# Altium integrated library TI_Logic_Flip-Flop,Latch,Register.IntLib: 2598 symbols (part 78 of 122)
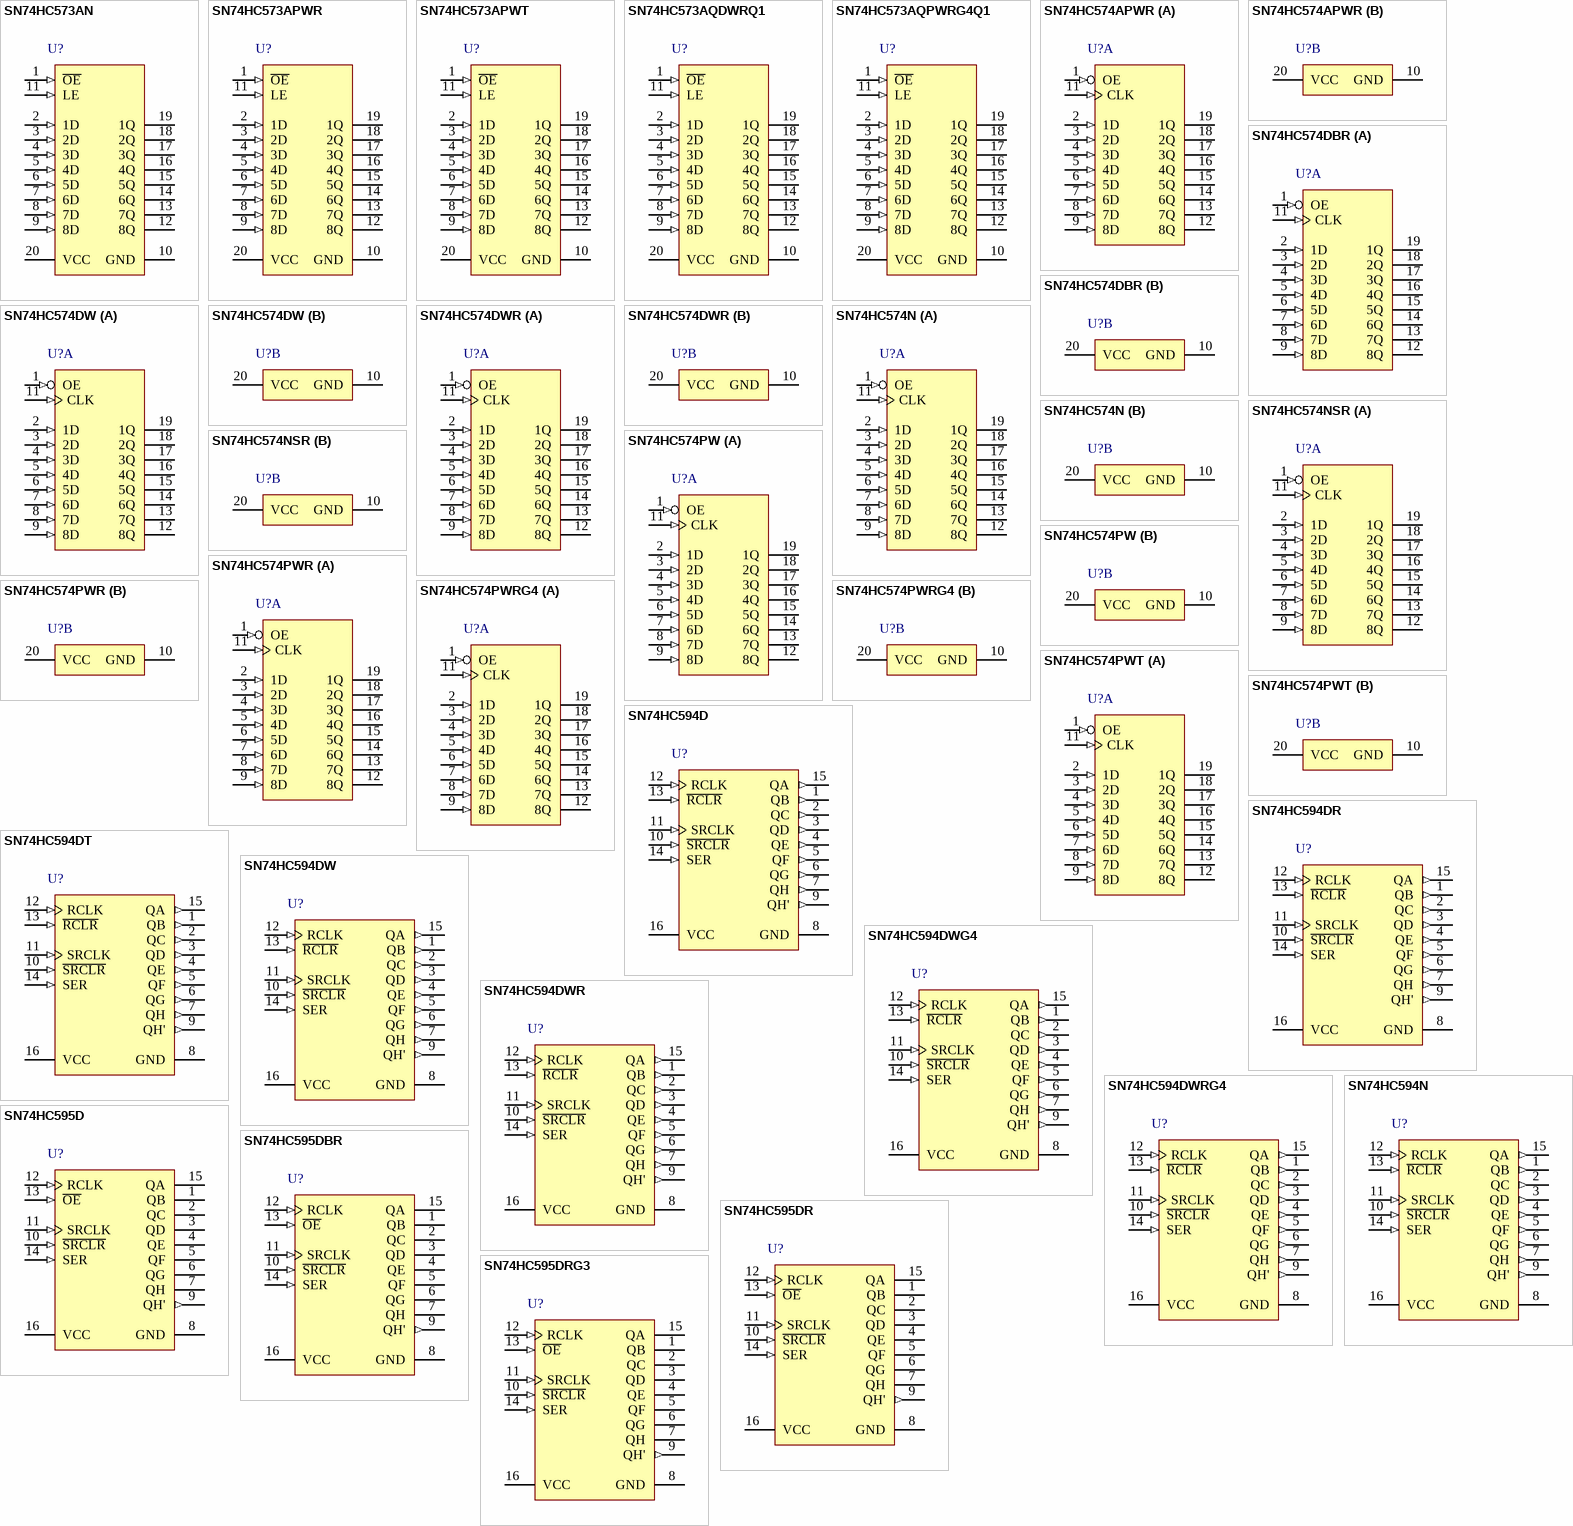
[diagram p216: symbols SN74HC573AN to SN74HC595DRG3]

## SN74HC594D
designator U?
8-Bit Shift Registers With Output Registers, D0016A, TUBE; Generic Part Number: SN74HC594; Manufacturer: Texas Instruments; PartNumber: SN74HC594D; Technology Family: HC; VCC(Min)(V): 2; VCC(Max)(V): 6; F @ Nom Voltage(Max)(Mhz): 28; ICC @ Nom Voltage(Max)(mA): 0.08; tpd @ Nom Voltage(Max)(ns): 31; Output Drive (IOL/IOH)(Max)(mA): 7.8/-7.8; Input Type: CMOS; 3-State Output: No; Rating: Catalog; Bits: 8; DatasheetVersion: SCLS040F; PackageReference: D0016A; Voltage(Nom)(V): 6; Output Type: CMOS; Operating Temperature Range(C): -40 to 85; Code_JEDEC: MS-012 variation AC; ComponentLink1Description: Manufacturer URL; ComponentLink1URL: http://www.ti.com/; ComponentLink2Description: Datasheet; ComponentLink2URL: http://www.ti.com/lit/ds/symlink/sn74hc594.pdf; ComponentLink3Description: Package Specification; ComponentLink3URL: http://www.ti.com/lit/ml/mpds178g/mpds178g.pdf
footprint D0016A_N (SOIC, 16-Leads, Body 10x4mm, Pitch 1.27mm, IPC Medium Density)
footprint D0016A_M (SOIC, 16-Leads, Body 10x4mm, Pitch 1.27mm, IPC Low Density)
footprint D0016A_L (SOIC, 16-Leads, Body 10x4mm, Pitch 1.27mm, IPC High Density)
pins: 1 QB (out) "QB Output", 2 QC (out) "QC Output", 3 QD (out) "QD Output", 4 QE (out) "QE Output", 5 QF (out) "QF Output", 6 QG (out) "QG Output", 7 QH (out) "QH Output", 8 GND (power) "Ground Pin", 9 QH' (out) "QH' Output", 10 ~{SRCLR} (in) "S\R\C\L\R\ Input", 11 SRCLK (in) "SRCLK Input", 12 RCLK (in) "RCLK Input", 13 ~{RCLR} (in) "R\C\L\R\ Input", 14 SER (in) "SER Input", 15 QA (out) "QA Output", 16 VCC (power) "Power pin"

## SN74HC594DR
designator U?
8-Bit Shift Registers With Output Registers, D0016A, LARGE T&R; Generic Part Number: SN74HC594; Manufacturer: Texas Instruments; PartNumber: SN74HC594DR; Technology Family: HC; VCC(Min)(V): 2; VCC(Max)(V): 6; F @ Nom Voltage(Max)(Mhz): 28; ICC @ Nom Voltage(Max)(mA): 0.08; tpd @ Nom Voltage(Max)(ns): 31; Output Drive (IOL/IOH)(Max)(mA): 7.8/-7.8; Input Type: CMOS; 3-State Output: No; Rating: Catalog; Bits: 8; DatasheetVersion: SCLS040F; PackageReference: D0016A; Voltage(Nom)(V): 6; Output Type: CMOS; Operating Temperature Range(C): -40 to 85; Code_JEDEC: MS-012 variation AC; ComponentLink1Description: Manufacturer URL; ComponentLink1URL: http://www.ti.com/; ComponentLink2Description: Datasheet; ComponentLink2URL: http://www.ti.com/lit/ds/symlink/sn74hc594.pdf; ComponentLink3Description: Package Specification; ComponentLink3URL: http://www.ti.com/lit/ml/mpds178g/mpds178g.pdf
footprint D0016A_N (SOIC, 16-Leads, Body 10x4mm, Pitch 1.27mm, IPC Medium Density)
footprint D0016A_M (SOIC, 16-Leads, Body 10x4mm, Pitch 1.27mm, IPC Low Density)
footprint D0016A_L (SOIC, 16-Leads, Body 10x4mm, Pitch 1.27mm, IPC High Density)
pins: 1 QB (out) "QB Output", 2 QC (out) "QC Output", 3 QD (out) "QD Output", 4 QE (out) "QE Output", 5 QF (out) "QF Output", 6 QG (out) "QG Output", 7 QH (out) "QH Output", 8 GND (power) "Ground Pin", 9 QH' (out) "QH' Output", 10 ~{SRCLR} (in) "S\R\C\L\R\ Input", 11 SRCLK (in) "SRCLK Input", 12 RCLK (in) "RCLK Input", 13 ~{RCLR} (in) "R\C\L\R\ Input", 14 SER (in) "SER Input", 15 QA (out) "QA Output", 16 VCC (power) "Power pin"

## SN74HC594DT
designator U?
8-Bit Shift Registers With Output Registers, D0016A, SMALL T&R; Generic Part Number: SN74HC594; Manufacturer: Texas Instruments; PartNumber: SN74HC594DT; Technology Family: HC; VCC(Min)(V): 2; VCC(Max)(V): 6; F @ Nom Voltage(Max)(Mhz): 28; ICC @ Nom Voltage(Max)(mA): 0.08; tpd @ Nom Voltage(Max)(ns): 31; Output Drive (IOL/IOH)(Max)(mA): 7.8/-7.8; Input Type: CMOS; 3-State Output: No; Rating: Catalog; Bits: 8; DatasheetVersion: SCLS040F; PackageReference: D0016A; Voltage(Nom)(V): 6; Output Type: CMOS; Operating Temperature Range(C): -40 to 85; Code_JEDEC: MS-012 variation AC; ComponentLink1Description: Manufacturer URL; ComponentLink1URL: http://www.ti.com/; ComponentLink2Description: Datasheet; ComponentLink2URL: http://www.ti.com/lit/ds/symlink/sn74hc594.pdf; ComponentLink3Description: Package Specification; ComponentLink3URL: http://www.ti.com/lit/ml/mpds178g/mpds178g.pdf
footprint D0016A_N (SOIC, 16-Leads, Body 10x4mm, Pitch 1.27mm, IPC Medium Density)
footprint D0016A_M (SOIC, 16-Leads, Body 10x4mm, Pitch 1.27mm, IPC Low Density)
footprint D0016A_L (SOIC, 16-Leads, Body 10x4mm, Pitch 1.27mm, IPC High Density)
pins: 1 QB (out) "QB Output", 2 QC (out) "QC Output", 3 QD (out) "QD Output", 4 QE (out) "QE Output", 5 QF (out) "QF Output", 6 QG (out) "QG Output", 7 QH (out) "QH Output", 8 GND (power) "Ground Pin", 9 QH' (out) "QH' Output", 10 ~{SRCLR} (in) "S\R\C\L\R\ Input", 11 SRCLK (in) "SRCLK Input", 12 RCLK (in) "RCLK Input", 13 ~{RCLR} (in) "R\C\L\R\ Input", 14 SER (in) "SER Input", 15 QA (out) "QA Output", 16 VCC (power) "Power pin"

## SN74HC594DW
designator U?
8-Bit Shift Registers With Output Registers, DW0016A, TUBE; Generic Part Number: SN74HC594; Manufacturer: Texas Instruments; PartNumber: SN74HC594DW; Technology Family: HC; VCC(Min)(V): 2; VCC(Max)(V): 6; F @ Nom Voltage(Max)(Mhz): 28; ICC @ Nom Voltage(Max)(mA): 0.08; tpd @ Nom Voltage(Max)(ns): 31; Output Drive (IOL/IOH)(Max)(mA): 7.8/-7.8; Input Type: CMOS; 3-State Output: No; Rating: Catalog; Bits: 8; DatasheetVersion: SCLS040F; PackageReference: DW0016A; Voltage(Nom)(V): 6; Output Type: CMOS; Operating Temperature Range(C): -40 to 85; Code_JEDEC: MS-013 variation AA; ComponentLink1Description: Manufacturer URL; ComponentLink1URL: http://www.ti.com/; ComponentLink2Description: Datasheet; ComponentLink2URL: http://www.ti.com/lit/ds/symlink/sn74hc594.pdf; ComponentLink3Description: Package Specification; ComponentLink3URL: http://www.ti.com/lit/ml/msoi003g/msoi003g.pdf
footprint DW0016A_N (SOIC, 16-Leads, Body 10.5x7.6mm, Pitch 1.27mm, IPC Medium Density)
footprint DW0016A_M (SOIC, 16-Leads, Body 10.5x7.6mm, Pitch 1.27mm, IPC Low Density)
footprint DW0016A_L (SOIC, 16-Leads, Body 10.5x7.6mm, Pitch 1.27mm, IPC High Density)
pins: 1 QB (out) "QB Output", 2 QC (out) "QC Output", 3 QD (out) "QD Output", 4 QE (out) "QE Output", 5 QF (out) "QF Output", 6 QG (out) "QG Output", 7 QH (out) "QH Output", 8 GND (power) "Ground Pin", 9 QH' (out) "QH' Output", 10 ~{SRCLR} (in) "S\R\C\L\R\ Input", 11 SRCLK (in) "SRCLK Input", 12 RCLK (in) "RCLK Input", 13 ~{RCLR} (in) "R\C\L\R\ Input", 14 SER (in) "SER Input", 15 QA (out) "QA Output", 16 VCC (power) "Power pin"

## SN74HC594DWG4
designator U?
8-Bit Shift Registers With Output Registers, DW0016A, TUBE; Generic Part Number: SN74HC594; Manufacturer: Texas Instruments; PartNumber: SN74HC594DWG4; Technology Family: HC; VCC(Min)(V): 2; VCC(Max)(V): 6; F @ Nom Voltage(Max)(Mhz): 28; ICC @ Nom Voltage(Max)(mA): 0.08; tpd @ Nom Voltage(Max)(ns): 31; Output Drive (IOL/IOH)(Max)(mA): 7.8/-7.8; Input Type: CMOS; 3-State Output: No; Rating: Catalog; Bits: 8; DatasheetVersion: SCLS040F; PackageReference: DW0016A; Voltage(Nom)(V): 6; Output Type: CMOS; Operating Temperature Range(C): -40 to 85; Code_JEDEC: MS-013 variation AA; ComponentLink1Description: Manufacturer URL; ComponentLink1URL: http://www.ti.com/; ComponentLink2Description: Datasheet; ComponentLink2URL: http://www.ti.com/lit/ds/symlink/sn74hc594.pdf; ComponentLink3Description: Package Specification; ComponentLink3URL: http://www.ti.com/lit/ml/msoi003g/msoi003g.pdf
footprint DW0016A_N (SOIC, 16-Leads, Body 10.5x7.6mm, Pitch 1.27mm, IPC Medium Density)
footprint DW0016A_M (SOIC, 16-Leads, Body 10.5x7.6mm, Pitch 1.27mm, IPC Low Density)
footprint DW0016A_L (SOIC, 16-Leads, Body 10.5x7.6mm, Pitch 1.27mm, IPC High Density)
pins: 1 QB (out) "QB Output", 2 QC (out) "QC Output", 3 QD (out) "QD Output", 4 QE (out) "QE Output", 5 QF (out) "QF Output", 6 QG (out) "QG Output", 7 QH (out) "QH Output", 8 GND (power) "Ground Pin", 9 QH' (out) "QH' Output", 10 ~{SRCLR} (in) "S\R\C\L\R\ Input", 11 SRCLK (in) "SRCLK Input", 12 RCLK (in) "RCLK Input", 13 ~{RCLR} (in) "R\C\L\R\ Input", 14 SER (in) "SER Input", 15 QA (out) "QA Output", 16 VCC (power) "Power pin"

## SN74HC594DWR
designator U?
8-Bit Shift Registers With Output Registers, DW0016A, LARGE T&R; Generic Part Number: SN74HC594; Manufacturer: Texas Instruments; PartNumber: SN74HC594DWR; Technology Family: HC; VCC(Min)(V): 2; VCC(Max)(V): 6; F @ Nom Voltage(Max)(Mhz): 28; ICC @ Nom Voltage(Max)(mA): 0.08; tpd @ Nom Voltage(Max)(ns): 31; Output Drive (IOL/IOH)(Max)(mA): 7.8/-7.8; Input Type: CMOS; 3-State Output: No; Rating: Catalog; Bits: 8; DatasheetVersion: SCLS040F; PackageReference: DW0016A; Voltage(Nom)(V): 6; Output Type: CMOS; Operating Temperature Range(C): -40 to 85; Code_JEDEC: MS-013 variation AA; ComponentLink1Description: Manufacturer URL; ComponentLink1URL: http://www.ti.com/; ComponentLink2Description: Datasheet; ComponentLink2URL: http://www.ti.com/lit/ds/symlink/sn74hc594.pdf; ComponentLink3Description: Package Specification; ComponentLink3URL: http://www.ti.com/lit/ml/msoi003g/msoi003g.pdf
footprint DW0016A_N (SOIC, 16-Leads, Body 10.5x7.6mm, Pitch 1.27mm, IPC Medium Density)
footprint DW0016A_M (SOIC, 16-Leads, Body 10.5x7.6mm, Pitch 1.27mm, IPC Low Density)
footprint DW0016A_L (SOIC, 16-Leads, Body 10.5x7.6mm, Pitch 1.27mm, IPC High Density)
pins: 1 QB (out) "QB Output", 2 QC (out) "QC Output", 3 QD (out) "QD Output", 4 QE (out) "QE Output", 5 QF (out) "QF Output", 6 QG (out) "QG Output", 7 QH (out) "QH Output", 8 GND (power) "Ground Pin", 9 QH' (out) "QH' Output", 10 ~{SRCLR} (in) "S\R\C\L\R\ Input", 11 SRCLK (in) "SRCLK Input", 12 RCLK (in) "RCLK Input", 13 ~{RCLR} (in) "R\C\L\R\ Input", 14 SER (in) "SER Input", 15 QA (out) "QA Output", 16 VCC (power) "Power pin"

## SN74HC594DWRG4
designator U?
8-Bit Shift Registers With Output Registers, DW0016A, LARGE T&R; Generic Part Number: SN74HC594; Manufacturer: Texas Instruments; PartNumber: SN74HC594DWRG4; Technology Family: HC; VCC(Min)(V): 2; VCC(Max)(V): 6; F @ Nom Voltage(Max)(Mhz): 28; ICC @ Nom Voltage(Max)(mA): 0.08; tpd @ Nom Voltage(Max)(ns): 31; Output Drive (IOL/IOH)(Max)(mA): 7.8/-7.8; Input Type: CMOS; 3-State Output: No; Rating: Catalog; DatasheetVersion: SCLS040F; PackageReference: DW0016A; Voltage(Nom)(V): 6; Output Type: CMOS; Operating Temperature Range(C): -40 to 85; Code_JEDEC: MS-013 variation AA; ComponentLink1Description: Manufacturer URL; ComponentLink1URL: http://www.ti.com/; ComponentLink2Description: Datasheet; ComponentLink2URL: http://www.ti.com/lit/ds/symlink/sn74hc594.pdf; ComponentLink3Description: Package Specification; ComponentLink3URL: http://www.ti.com/lit/ml/msoi003g/msoi003g.pdf
footprint DW0016A_N (SOIC, 16-Leads, Body 10.5x7.6mm, Pitch 1.27mm, IPC Medium Density)
footprint DW0016A_M (SOIC, 16-Leads, Body 10.5x7.6mm, Pitch 1.27mm, IPC Low Density)
footprint DW0016A_L (SOIC, 16-Leads, Body 10.5x7.6mm, Pitch 1.27mm, IPC High Density)
pins: 1 QB (out) "QB Output", 2 QC (out) "QC Output", 3 QD (out) "QD Output", 4 QE (out) "QE Output", 5 QF (out) "QF Output", 6 QG (out) "QG Output", 7 QH (out) "QH Output", 8 GND (power) "Ground Pin", 9 QH' (out) "QH' Output", 10 ~{SRCLR} (in) "S\R\C\L\R\ Input", 11 SRCLK (in) "SRCLK Input", 12 RCLK (in) "RCLK Input", 13 ~{RCLR} (in) "R\C\L\R\ Input", 14 SER (in) "SER Input", 15 QA (out) "QA Output", 16 VCC (power) "Power pin"

## SN74HC594N
designator U?
8-Bit Shift Registers With Output Registers, N0016A, TUBE; Generic Part Number: SN74HC594; Manufacturer: Texas Instruments; PartNumber: SN74HC594N; Technology Family: HC; VCC(Min)(V): 2; VCC(Max)(V): 6; F @ Nom Voltage(Max)(Mhz): 28; ICC @ Nom Voltage(Max)(mA): 0.08; tpd @ Nom Voltage(Max)(ns): 31; Output Drive (IOL/IOH)(Max)(mA): 7.8/-7.8; Input Type: CMOS; 3-State Output: No; Rating: Catalog; Bits: 8; DatasheetVersion: SCLS040F; PackageReference: N0016A; Voltage(Nom)(V): 6; Output Type: CMOS; Operating Temperature Range(C): -40 to 85; Code_JEDEC: MS-001; ComponentLink1Description: Manufacturer URL; ComponentLink1URL: http://www.ti.com/; ComponentLink2Description: Datasheet; ComponentLink2URL: http://www.ti.com/lit/ds/symlink/sn74hc594.pdf; ComponentLink3Description: Package Specification; ComponentLink3URL: http://www.ti.com/lit/ml/mpdi002c/mpdi002c.pdf
footprint N0016A (DIP, 16-Leads, Body 19.7x6.6mm, Pitch 2.54mm)
pins: 1 QB (out) "QB Output", 2 QC (out) "QC Output", 3 QD (out) "QD Output", 4 QE (out) "QE Output", 5 QF (out) "QF Output", 6 QG (out) "QG Output", 7 QH (out) "QH Output", 8 GND (power) "Ground Pin", 9 QH' (out) "QH' Output", 10 ~{SRCLR} (in) "S\R\C\L\R\ Input", 11 SRCLK (in) "SRCLK Input", 12 RCLK (in) "RCLK Input", 13 ~{RCLR} (in) "R\C\L\R\ Input", 14 SER (in) "SER Input", 15 QA (out) "QA Output", 16 VCC (power) "Power pin"

## SN74HC595D
designator U?
8-Bit Shift Registers With 3-State Output Registers, D0016A, TUBE; Generic Part Number: SN74HC595; Manufacturer: Texas Instruments; PartNumber: SN74HC595D; Technology Family: HC; VCC(Min)(V): 2; VCC(Max)(V): 6; F @ Nom Voltage(Max)(Mhz): 28; ICC @ Nom Voltage(Max)(mA): 0.08; tpd @ Nom Voltage(Max)(ns): 34; Output Drive (IOL/IOH)(Max)(mA): 7.8/-7.8; Input Type: CMOS; 3-State Output: Yes; Rating: Military; Bits: 8; DatasheetVersion: SCLS041H; PackageReference: D0016A; Voltage(Nom)(V): 6; Output Type: CMOS; Operating Temperature Range(C): -40 to 85; Code_JEDEC: MS-012 variation AC; ComponentLink1Description: Manufacturer URL; ComponentLink1URL: http://www.ti.com/; ComponentLink2Description: Datasheet; ComponentLink2URL: http://www.ti.com/lit/ds/symlink/sn74hc595.pdf; ComponentLink3Description: Package Specification; ComponentLink3URL: http://www.ti.com/lit/ml/mpds178g/mpds178g.pdf
footprint D0016A_N (SOIC, 16-Leads, Body 10x4mm, Pitch 1.27mm, IPC Medium Density)
footprint D0016A_M (SOIC, 16-Leads, Body 10x4mm, Pitch 1.27mm, IPC Low Density)
footprint D0016A_L (SOIC, 16-Leads, Body 10x4mm, Pitch 1.27mm, IPC High Density)
pins: 1 QB (hiz) "QB Output", 2 QC (hiz) "QC Output", 3 QD (hiz) "QD Output", 4 QE (hiz) "QE Output", 5 QF (hiz) "QF Output", 6 QG (hiz) "QG Output", 7 QH (hiz) "QH Output", 8 GND (power) "Ground Pin", 9 QH' (out) "QH' Output", 10 ~{SRCLR} (in) "S\R\C\L\R\ Input", 11 SRCLK (in) "SRCLK Input", 12 RCLK (in) "RCLK Input", 13 ~{OE} (in) "Output Enable Pin", 14 SER (in) "SER Input", 15 QA (hiz) "QA Output", 16 VCC (power) "Power Pin"

## SN74HC595DBR
designator U?
8-Bit Shift Registers With 3-State Output Registers, DB0016A, LARGE T&R; Generic Part Number: SN74HC595; Manufacturer: Texas Instruments; PartNumber: SN74HC595DBR; Technology Family: HC; VCC(Min)(V): 2; VCC(Max)(V): 6; F @ Nom Voltage(Max)(Mhz): 28; ICC @ Nom Voltage(Max)(mA): 0.08; tpd @ Nom Voltage(Max)(ns): 34; Output Drive (IOL/IOH)(Max)(mA): 7.8/-7.8; Input Type: CMOS; 3-State Output: Yes; Rating: Military; DatasheetVersion: SCLS041H; PackageReference: DB0016A; Voltage(Nom)(V): 6; Output Type: CMOS; Operating Temperature Range(C): -40 to 85; Code_JEDEC: MO-150; ComponentLink1Description: Manufacturer URL; ComponentLink1URL: http://www.ti.com/; ComponentLink2Description: Datasheet; ComponentLink2URL: http://www.ti.com/lit/ds/symlink/sn74hc595.pdf; ComponentLink3Description: Package Specification; ComponentLink3URL: http://www.ti.com/lit/ml/mpds507/mpds507.pdf
footprint DB0016A_N (SOP, 16-Leads, Body 5.6x6.5mm, Pitch 0.65mm, IPC Medium Density)
footprint DB0016A_M (SOP, 16-Leads, Body 5.6x6.5mm, Pitch 0.65mm, IPC Low Density)
footprint DB0016A_L (SOP, 16-Leads, Body 5.6x6.5mm, Pitch 0.65mm, IPC High Density)
pins: 1 QB (hiz) "QB Output", 2 QC (hiz) "QC Output", 3 QD (hiz) "QD Output", 4 QE (hiz) "QE Output", 5 QF (hiz) "QF Output", 6 QG (hiz) "QG Output", 7 QH (hiz) "QH Output", 8 GND (power) "Ground Pin", 9 QH' (out) "QH' Output", 10 ~{SRCLR} (in) "S\R\C\L\R\ Input", 11 SRCLK (in) "SRCLK Input", 12 RCLK (in) "RCLK Input", 13 ~{OE} (in) "Output Enable Pin", 14 SER (in) "SER Input", 15 QA (hiz) "QA Output", 16 VCC (power) "Power Pin"

## SN74HC595DR
designator U?
8-Bit Shift Registers With 3-State Output Registers, D0016A, LARGE T&R; Generic Part Number: SN74HC595; Manufacturer: Texas Instruments; PartNumber: SN74HC595DR; Technology Family: HC; VCC(Min)(V): 2; VCC(Max)(V): 6; F @ Nom Voltage(Max)(Mhz): 28; ICC @ Nom Voltage(Max)(mA): 0.08; tpd @ Nom Voltage(Max)(ns): 34; Output Drive (IOL/IOH)(Max)(mA): 7.8/-7.8; Input Type: CMOS; 3-State Output: Yes; Rating: Military; Bits: 4; DatasheetVersion: SCLS041H; PackageReference: D0016A; Voltage(Nom)(V): 6; Output Type: CMOS; Operating Temperature Range(C): -40 to 85; Code_JEDEC: MS-012 variation AC; ComponentLink1Description: Manufacturer URL; ComponentLink1URL: http://www.ti.com/; ComponentLink2Description: Datasheet; ComponentLink2URL: http://www.ti.com/lit/ds/symlink/sn74hc595.pdf; ComponentLink3Description: Package Specification; ComponentLink3URL: http://www.ti.com/lit/ml/mpds178g/mpds178g.pdf
footprint D0016A_N (SOIC, 16-Leads, Body 10x4mm, Pitch 1.27mm, IPC Medium Density)
footprint D0016A_M (SOIC, 16-Leads, Body 10x4mm, Pitch 1.27mm, IPC Low Density)
footprint D0016A_L (SOIC, 16-Leads, Body 10x4mm, Pitch 1.27mm, IPC High Density)
pins: 1 QB (hiz) "QB Output", 2 QC (hiz) "QC Output", 3 QD (hiz) "QD Output", 4 QE (hiz) "QE Output", 5 QF (hiz) "QF Output", 6 QG (hiz) "QG Output", 7 QH (hiz) "QH Output", 8 GND (power) "Ground Pin", 9 QH' (out) "QH' Output", 10 ~{SRCLR} (in) "S\R\C\L\R\ Input", 11 SRCLK (in) "SRCLK Input", 12 RCLK (in) "RCLK Input", 13 ~{OE} (in) "Output Enable Pin", 14 SER (in) "SER Input", 15 QA (hiz) "QA Output", 16 VCC (power) "Power Pin"

## SN74HC595DRG3
designator U?
8-Bit Shift Registers With 3-State Output Registers, D0016A, LARGE T&R; Generic Part Number: SN74HC595; Manufacturer: Texas Instruments; PartNumber: SN74HC595DRG3; Technology Family: HC; VCC(Min)(V): 2; VCC(Max)(V): 6; F @ Nom Voltage(Max)(Mhz): 28; ICC @ Nom Voltage(Max)(mA): 0.08; tpd @ Nom Voltage(Max)(ns): 34; Output Drive (IOL/IOH)(Max)(mA): 7.8/-7.8; Input Type: CMOS; 3-State Output: Yes; Rating: Military; Bits: 8; DatasheetVersion: SCLS041H; PackageReference: D0016A; Voltage(Nom)(V): 6; Output Type: CMOS; Operating Temperature Range(C): -40 to 85; Code_JEDEC: MS-012 variation AC; ComponentLink1Description: Manufacturer URL; ComponentLink1URL: http://www.ti.com/; ComponentLink2Description: Datasheet; ComponentLink2URL: http://www.ti.com/lit/ds/symlink/sn74hc595.pdf; ComponentLink3Description: Package Specification; ComponentLink3URL: http://www.ti.com/lit/ml/mpds178g/mpds178g.pdf
footprint D0016A_N (SOIC, 16-Leads, Body 10x4mm, Pitch 1.27mm, IPC Medium Density)
footprint D0016A_M (SOIC, 16-Leads, Body 10x4mm, Pitch 1.27mm, IPC Low Density)
footprint D0016A_L (SOIC, 16-Leads, Body 10x4mm, Pitch 1.27mm, IPC High Density)
pins: 1 QB (hiz) "QB Output", 2 QC (hiz) "QC Output", 3 QD (hiz) "QD Output", 4 QE (hiz) "QE Output", 5 QF (hiz) "QF Output", 6 QG (hiz) "QG Output", 7 QH (hiz) "QH Output", 8 GND (power) "Ground Pin", 9 QH' (out) "QH' Output", 10 ~{SRCLR} (in) "S\R\C\L\R\ Input", 11 SRCLK (in) "SRCLK Input", 12 RCLK (in) "RCLK Input", 13 ~{OE} (in) "Output Enable Pin", 14 SER (in) "SER Input", 15 QA (hiz) "QA Output", 16 VCC (power) "Power Pin"

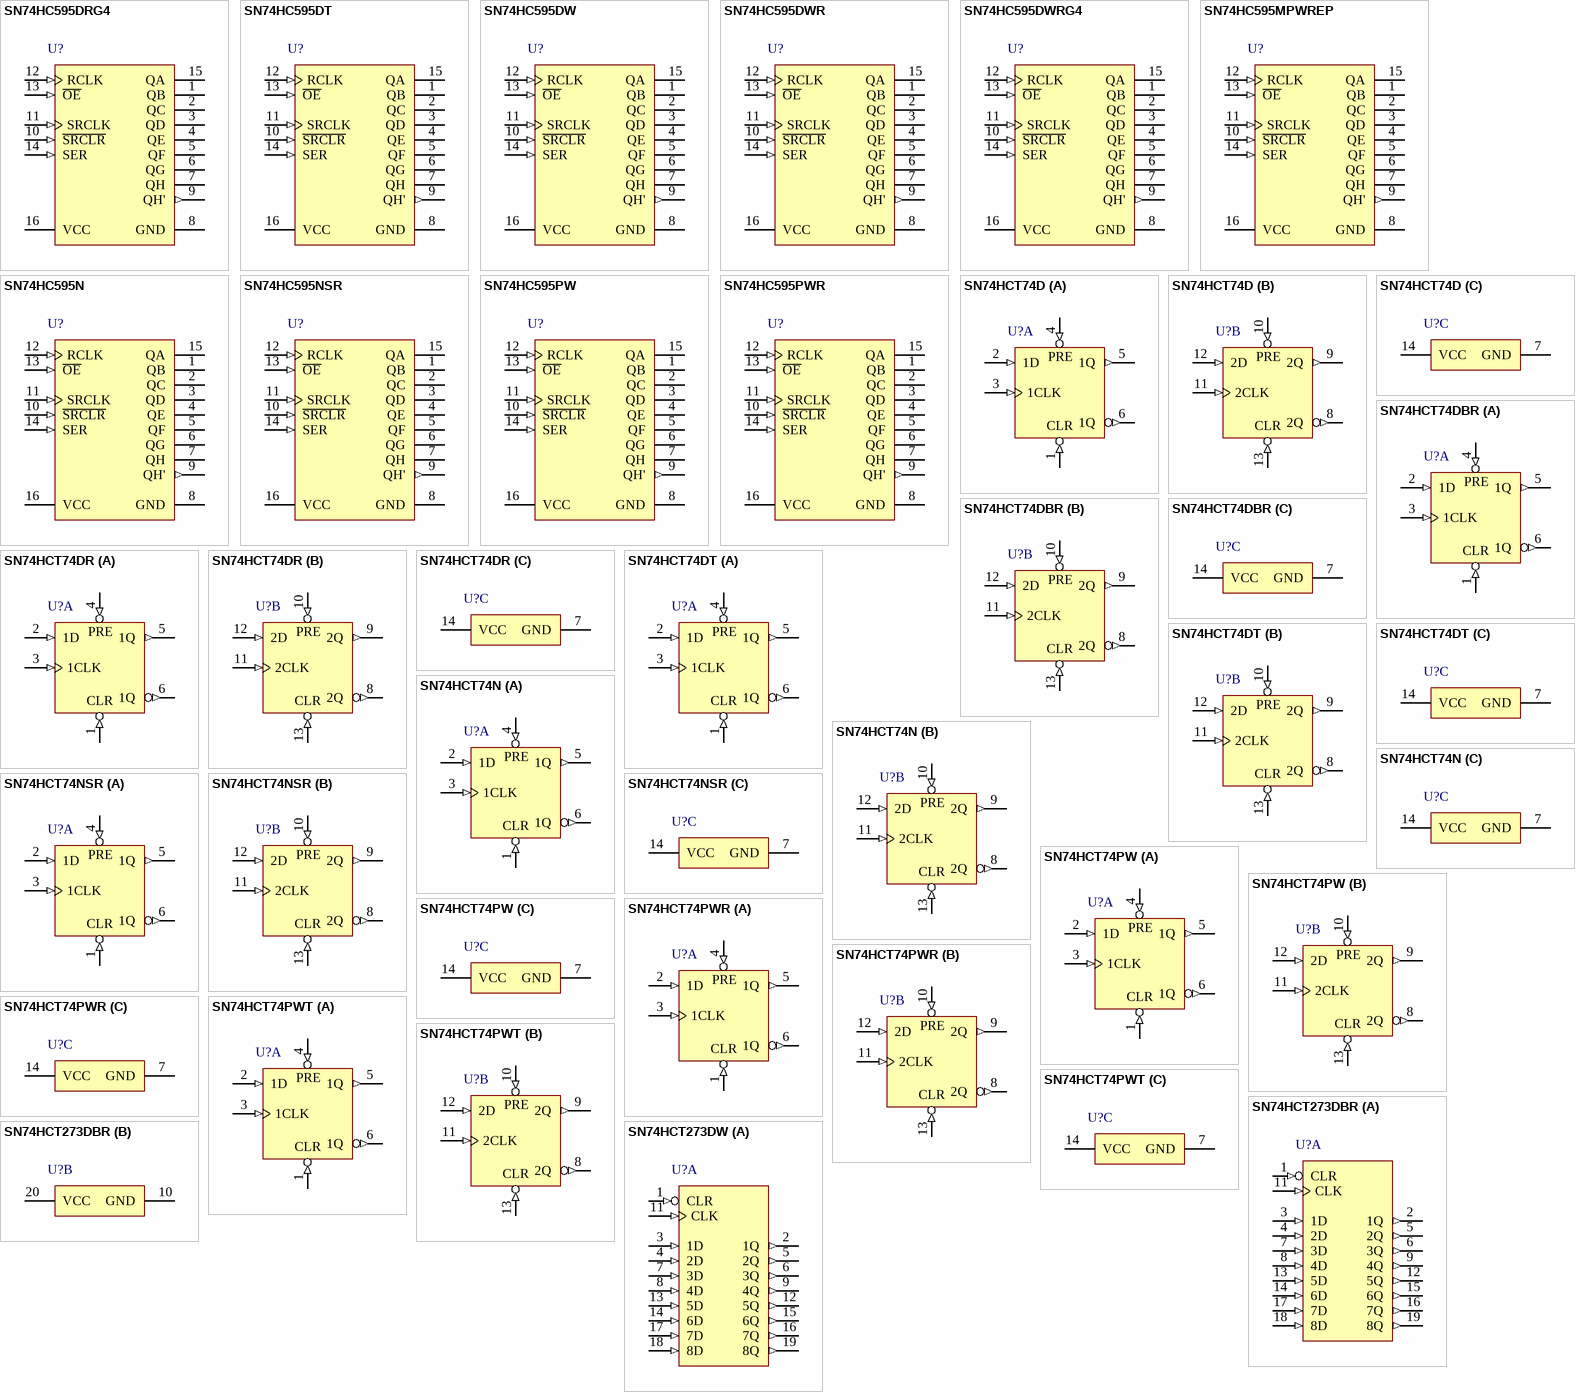
[diagram p92: symbols SN74HC595DRG4 to SN74HCT273DW]

## SN74HC595DRG4
designator U?
8-Bit Shift Registers With 3-State Output Registers, D0016A, LARGE T&R; Generic Part Number: SN74HC595; Manufacturer: Texas Instruments; PartNumber: SN74HC595DRG4; Technology Family: HC; VCC(Min)(V): 2; VCC(Max)(V): 6; F @ Nom Voltage(Max)(Mhz): 28; ICC @ Nom Voltage(Max)(mA): 0.08; tpd @ Nom Voltage(Max)(ns): 34; Output Drive (IOL/IOH)(Max)(mA): 7.8/-7.8; Input Type: CMOS; 3-State Output: Yes; Rating: Military; Bits: 8; DatasheetVersion: SCLS041H; PackageReference: D0016A; Voltage(Nom)(V): 6; Output Type: CMOS; Operating Temperature Range(C): -40 to 85; Code_JEDEC: MS-012 variation AC; ComponentLink1Description: Manufacturer URL; ComponentLink1URL: http://www.ti.com/; ComponentLink2Description: Datasheet; ComponentLink2URL: http://www.ti.com/lit/ds/symlink/sn74hc595.pdf; ComponentLink3Description: Package Specification; ComponentLink3URL: http://www.ti.com/lit/ml/mpds178g/mpds178g.pdf
footprint D0016A_N (SOIC, 16-Leads, Body 10x4mm, Pitch 1.27mm, IPC Medium Density)
footprint D0016A_M (SOIC, 16-Leads, Body 10x4mm, Pitch 1.27mm, IPC Low Density)
footprint D0016A_L (SOIC, 16-Leads, Body 10x4mm, Pitch 1.27mm, IPC High Density)
pins: 1 QB (hiz) "QB Output", 2 QC (hiz) "QC Output", 3 QD (hiz) "QD Output", 4 QE (hiz) "QE Output", 5 QF (hiz) "QF Output", 6 QG (hiz) "QG Output", 7 QH (hiz) "QH Output", 8 GND (power) "Ground Pin", 9 QH' (out) "QH' Output", 10 ~{SRCLR} (in) "S\R\C\L\R\ Input", 11 SRCLK (in) "SRCLK Input", 12 RCLK (in) "RCLK Input", 13 ~{OE} (in) "Output Enable Pin", 14 SER (in) "SER Input", 15 QA (hiz) "QA Output", 16 VCC (power) "Power Pin"

## SN74HC595DT
designator U?
8-Bit Shift Registers With 3-State Output Registers, D0016A, SMALL T&R; Generic Part Number: SN74HC595; Manufacturer: Texas Instruments; PartNumber: SN74HC595DT; Technology Family: HC; VCC(Min)(V): 2; VCC(Max)(V): 6; F @ Nom Voltage(Max)(Mhz): 28; ICC @ Nom Voltage(Max)(mA): 0.08; tpd @ Nom Voltage(Max)(ns): 34; Output Drive (IOL/IOH)(Max)(mA): 7.8/-7.8; Input Type: CMOS; 3-State Output: Yes; Rating: Military; Bits: 8; DatasheetVersion: SCLS041H; PackageReference: D0016A; Voltage(Nom)(V): 6; Output Type: CMOS; Operating Temperature Range(C): -40 to 85; Code_JEDEC: MS-012 variation AC; ComponentLink1Description: Manufacturer URL; ComponentLink1URL: http://www.ti.com/; ComponentLink2Description: Datasheet; ComponentLink2URL: http://www.ti.com/lit/ds/symlink/sn74hc595.pdf; ComponentLink3Description: Package Specification; ComponentLink3URL: http://www.ti.com/lit/ml/mpds178g/mpds178g.pdf
footprint D0016A_N (SOIC, 16-Leads, Body 10x4mm, Pitch 1.27mm, IPC Medium Density)
footprint D0016A_M (SOIC, 16-Leads, Body 10x4mm, Pitch 1.27mm, IPC Low Density)
footprint D0016A_L (SOIC, 16-Leads, Body 10x4mm, Pitch 1.27mm, IPC High Density)
pins: 1 QB (hiz) "QB Output", 2 QC (hiz) "QC Output", 3 QD (hiz) "QD Output", 4 QE (hiz) "QE Output", 5 QF (hiz) "QF Output", 6 QG (hiz) "QG Output", 7 QH (hiz) "QH Output", 8 GND (power) "Ground Pin", 9 QH' (out) "QH' Output", 10 ~{SRCLR} (in) "S\R\C\L\R\ Input", 11 SRCLK (in) "SRCLK Input", 12 RCLK (in) "RCLK Input", 13 ~{OE} (in) "Output Enable Pin", 14 SER (in) "SER Input", 15 QA (hiz) "QA Output", 16 VCC (power) "Power Pin"

## SN74HC595DW
designator U?
8-Bit Shift Registers With 3-State Output Registers, DW0016A, TUBE; Generic Part Number: SN74HC595; Manufacturer: Texas Instruments; PartNumber: SN74HC595DW; Technology Family: HC; VCC(Min)(V): 2; VCC(Max)(V): 6; F @ Nom Voltage(Max)(Mhz): 28; ICC @ Nom Voltage(Max)(mA): 0.08; tpd @ Nom Voltage(Max)(ns): 34; Output Drive (IOL/IOH)(Max)(mA): 7.8/-7.8; Input Type: CMOS; 3-State Output: Yes; Rating: Military; DatasheetVersion: SCLS041H; PackageReference: DW0016A; Voltage(Nom)(V): 6; Output Type: CMOS; Operating Temperature Range(C): -40 to 85; Code_JEDEC: MS-013 variation AA; ComponentLink1Description: Manufacturer URL; ComponentLink1URL: http://www.ti.com/; ComponentLink2Description: Datasheet; ComponentLink2URL: http://www.ti.com/lit/ds/symlink/sn74hc595.pdf; ComponentLink3Description: Package Specification; ComponentLink3URL: http://www.ti.com/lit/ml/msoi003g/msoi003g.pdf
footprint DW0016A_N (SOIC, 16-Leads, Body 10.5x7.6mm, Pitch 1.27mm, IPC Medium Density)
footprint DW0016A_M (SOIC, 16-Leads, Body 10.5x7.6mm, Pitch 1.27mm, IPC Low Density)
footprint DW0016A_L (SOIC, 16-Leads, Body 10.5x7.6mm, Pitch 1.27mm, IPC High Density)
pins: 1 QB (hiz) "QB Output", 2 QC (hiz) "QC Output", 3 QD (hiz) "QD Output", 4 QE (hiz) "QE Output", 5 QF (hiz) "QF Output", 6 QG (hiz) "QG Output", 7 QH (hiz) "QH Output", 8 GND (power) "Ground Pin", 9 QH' (out) "QH' Output", 10 ~{SRCLR} (in) "S\R\C\L\R\ Input", 11 SRCLK (in) "SRCLK Input", 12 RCLK (in) "RCLK Input", 13 ~{OE} (in) "Output Enable Pin", 14 SER (in) "SER Input", 15 QA (hiz) "QA Output", 16 VCC (power) "Power Pin"

## SN74HC595DWR
designator U?
8-Bit Shift Registers With 3-State Output Registers, DW0016A, LARGE T&R; Generic Part Number: SN74HC595; Manufacturer: Texas Instruments; PartNumber: SN74HC595DWR; Technology Family: HC; VCC(Min)(V): 2; VCC(Max)(V): 6; F @ Nom Voltage(Max)(Mhz): 28; ICC @ Nom Voltage(Max)(mA): 0.08; tpd @ Nom Voltage(Max)(ns): 34; Output Drive (IOL/IOH)(Max)(mA): 7.8/-7.8; Input Type: CMOS; 3-State Output: Yes; Rating: Military; Bits: 8; DatasheetVersion: SCLS041H; PackageReference: DW0016A; Voltage(Nom)(V): 6; Output Type: CMOS; Operating Temperature Range(C): -40 to 85; Code_JEDEC: MS-013 variation AA; ComponentLink1Description: Manufacturer URL; ComponentLink1URL: http://www.ti.com/; ComponentLink2Description: Datasheet; ComponentLink2URL: http://www.ti.com/lit/ds/symlink/sn74hc595.pdf; ComponentLink3Description: Package Specification; ComponentLink3URL: http://www.ti.com/lit/ml/msoi003g/msoi003g.pdf
footprint DW0016A_N (SOIC, 16-Leads, Body 10.5x7.6mm, Pitch 1.27mm, IPC Medium Density)
footprint DW0016A_M (SOIC, 16-Leads, Body 10.5x7.6mm, Pitch 1.27mm, IPC Low Density)
footprint DW0016A_L (SOIC, 16-Leads, Body 10.5x7.6mm, Pitch 1.27mm, IPC High Density)
pins: 1 QB (hiz) "QB Output", 2 QC (hiz) "QC Output", 3 QD (hiz) "QD Output", 4 QE (hiz) "QE Output", 5 QF (hiz) "QF Output", 6 QG (hiz) "QG Output", 7 QH (hiz) "QH Output", 8 GND (power) "Ground Pin", 9 QH' (out) "QH' Output", 10 ~{SRCLR} (in) "S\R\C\L\R\ Input", 11 SRCLK (in) "SRCLK Input", 12 RCLK (in) "RCLK Input", 13 ~{OE} (in) "Output Enable Pin", 14 SER (in) "SER Input", 15 QA (hiz) "QA Output", 16 VCC (power) "Power Pin"

## SN74HC595DWRG4
designator U?
8-Bit Shift Registers With 3-State Output Registers, DW0016A, LARGE T&R; Generic Part Number: SN74HC595; Manufacturer: Texas Instruments; PartNumber: SN74HC595DWRG4; Technology Family: HC; VCC(Min)(V): 2; VCC(Max)(V): 6; F @ Nom Voltage(Max)(Mhz): 28; ICC @ Nom Voltage(Max)(mA): 0.08; tpd @ Nom Voltage(Max)(ns): 34; Output Drive (IOL/IOH)(Max)(mA): 7.8/-7.8; Input Type: CMOS; 3-State Output: Yes; Rating: Military; Bits: 8; DatasheetVersion: SCLS041H; PackageReference: DW0016A; Voltage(Nom)(V): 6; Output Type: CMOS; Operating Temperature Range(C): -40 to 85; Code_JEDEC: MS-013 variation AA; ComponentLink1Description: Manufacturer URL; ComponentLink1URL: http://www.ti.com/; ComponentLink2Description: Datasheet; ComponentLink2URL: http://www.ti.com/lit/ds/symlink/sn74hc595.pdf; ComponentLink3Description: Package Specification; ComponentLink3URL: http://www.ti.com/lit/ml/msoi003g/msoi003g.pdf
footprint DW0016A_N (SOIC, 16-Leads, Body 10.5x7.6mm, Pitch 1.27mm, IPC Medium Density)
footprint DW0016A_M (SOIC, 16-Leads, Body 10.5x7.6mm, Pitch 1.27mm, IPC Low Density)
footprint DW0016A_L (SOIC, 16-Leads, Body 10.5x7.6mm, Pitch 1.27mm, IPC High Density)
pins: 1 QB (hiz) "QB Output", 2 QC (hiz) "QC Output", 3 QD (hiz) "QD Output", 4 QE (hiz) "QE Output", 5 QF (hiz) "QF Output", 6 QG (hiz) "QG Output", 7 QH (hiz) "QH Output", 8 GND (power) "Ground Pin", 9 QH' (out) "QH' Output", 10 ~{SRCLR} (in) "S\R\C\L\R\ Input", 11 SRCLK (in) "SRCLK Input", 12 RCLK (in) "RCLK Input", 13 ~{OE} (in) "Output Enable Pin", 14 SER (in) "SER Input", 15 QA (hiz) "QA Output", 16 VCC (power) "Power Pin"

## SN74HC595MPWREP
designator U?
Enhanced Product 8-Bit Shift Registers With 3-State Output Registers, PW0016A, LARGE T&R; Generic Part Number: SN74HC595-EP; Manufacturer: Texas Instruments; PartNumber: SN74HC595MPWREP; Technology Family: HC; VCC(Min)(V): 2; VCC(Max)(V): 6; No. of Outputs: 9; F @ Nom Voltage(Max)(Mhz): 28; ICC @ Nom Voltage(Max)(mA): 0.08; tpd @ Nom Voltage(Max)(ns): 34; Output Drive (IOL/IOH)(Max)(mA): 7.8/-7.8; Input Type: CMOS; 3-State Output: Yes; Rating: HiRel Enhanced Product; Bits: 8; DatasheetVersion: SCLS719; PackageReference: PW0016A; Voltage(Nom)(V): 6; Output Type: CMOS; Operating Temperature Range(C): -55 to 125; Code_JEDEC: MO-153; ComponentLink1Description: Manufacturer URL; ComponentLink1URL: http://www.ti.com/; ComponentLink2Description: Datasheet; ComponentLink2URL: http://www.ti.com/lit/ds/symlink/sn74hc595-ep.pdf; ComponentLink3Description: Package Specification; ComponentLink3URL: http://www.ti.com/lit/ml/mpds361/mpds361.pdf
footprint PW0016A_N (SOP, 16-Leads, Body 5.1x4.5mm, Pitch 0.65mm, IPC Medium Density)
footprint PW0016A_M (SOP, 16-Leads, Body 5.1x4.5mm, Pitch 0.65mm, IPC Low Density)
footprint PW0016A_L (SOP, 16-Leads, Body 5.1x4.5mm, Pitch 0.65mm, IPC High Density)
pins: 1 QB (hiz) "QB Output", 2 QC (hiz) "QC Output", 3 QD (hiz) "QD Output", 4 QE (hiz) "QE Output", 5 QF (hiz) "QF Output", 6 QG (hiz) "QG Output", 7 QH (hiz) "QH Output", 8 GND (power) "Ground Pin", 9 QH' (out) "QH' Output", 10 ~{SRCLR} (in) "S\R\C\L\R\ Input", 11 SRCLK (in) "SRCLK Input", 12 RCLK (in) "RCLK Input", 13 ~{OE} (in) "Output Enable Pin", 14 SER (in) "SER Input", 15 QA (hiz) "QA Output", 16 VCC (power) "Power Pin"

## SN74HC595N
designator U?
8-Bit Shift Registers With 3-State Output Registers, N0016A, TUBE; Generic Part Number: SN74HC595; Manufacturer: Texas Instruments; PartNumber: SN74HC595N; Technology Family: HC; VCC(Min)(V): 2; VCC(Max)(V): 6; F @ Nom Voltage(Max)(Mhz): 28; ICC @ Nom Voltage(Max)(mA): 0.08; tpd @ Nom Voltage(Max)(ns): 34; Output Drive (IOL/IOH)(Max)(mA): 7.8/-7.8; Input Type: CMOS; 3-State Output: Yes; Rating: Military; Bits: 8; DatasheetVersion: SCLS041H; PackageReference: N0016A; Voltage(Nom)(V): 6; Output Type: CMOS; Operating Temperature Range(C): -40 to 85; Code_JEDEC: MS-001; ComponentLink1Description: Manufacturer URL; ComponentLink1URL: http://www.ti.com/; ComponentLink2Description: Datasheet; ComponentLink2URL: http://www.ti.com/lit/ds/symlink/sn74hc595.pdf; ComponentLink3Description: Package Specification; ComponentLink3URL: http://www.ti.com/lit/ml/mpdi002c/mpdi002c.pdf
footprint N0016A (DIP, 16-Leads, Body 19.7x6.6mm, Pitch 2.54mm)
pins: 1 QB (hiz) "QB Output", 2 QC (hiz) "QC Output", 3 QD (hiz) "QD Output", 4 QE (hiz) "QE Output", 5 QF (hiz) "QF Output", 6 QG (hiz) "QG Output", 7 QH (hiz) "QH Output", 8 GND (power) "Ground Pin", 9 QH' (out) "QH' Output", 10 ~{SRCLR} (in) "S\R\C\L\R\ Input", 11 SRCLK (in) "SRCLK Input", 12 RCLK (in) "RCLK Input", 13 ~{OE} (in) "Output Enable Pin", 14 SER (in) "SER Input", 15 QA (hiz) "QA Output", 16 VCC (power) "Power Pin"

## SN74HC595NSR
designator U?
8-Bit Shift Registers With 3-State Output Registers, NS0016A, LARGE T&R; Generic Part Number: SN74HC595; Manufacturer: Texas Instruments; PartNumber: SN74HC595NSR; Technology Family: HC; VCC(Min)(V): 2; VCC(Max)(V): 6; F @ Nom Voltage(Max)(Mhz): 28; ICC @ Nom Voltage(Max)(mA): 0.08; tpd @ Nom Voltage(Max)(ns): 34; Output Drive (IOL/IOH)(Max)(mA): 7.8/-7.8; Input Type: CMOS; 3-State Output: Yes; Rating: Military; Bits: 8; DatasheetVersion: SCLS041H; PackageReference: NS0016A; Voltage(Nom)(V): 6; Output Type: CMOS; Operating Temperature Range(C): -40 to 85; ComponentLink1Description: Manufacturer URL; ComponentLink1URL: http://www.ti.com/; ComponentLink2Description: Datasheet; ComponentLink2URL: http://www.ti.com/lit/ds/symlink/sn74hc595.pdf; ComponentLink3Description: Package Specification; ComponentLink3URL: http://www.ti.com/lit/ml/msop002a/msop002a.pdf
footprint NS0016A_N (SOIC,16-Leads,Body 10.5x5.6mm,Pitch 1.27mm,IPC Medium Density)
footprint NS0016A_M (SOIC,16-Leads,Body 10.5x5.6mm,Pitch 1.27mm,IPC Low Density)
footprint NS0016A_L (SOIC,16-Leads,Body 10.5x5.6mm,Pitch 1.27mm,IPC High Density)
pins: 1 QB (hiz) "QB Output", 2 QC (hiz) "QC Output", 3 QD (hiz) "QD Output", 4 QE (hiz) "QE Output", 5 QF (hiz) "QF Output", 6 QG (hiz) "QG Output", 7 QH (hiz) "QH Output", 8 GND (power) "Ground Pin", 9 QH' (out) "QH' Output", 10 ~{SRCLR} (in) "S\R\C\L\R\ Input", 11 SRCLK (in) "SRCLK Input", 12 RCLK (in) "RCLK Input", 13 ~{OE} (in) "Output Enable Pin", 14 SER (in) "SER Input", 15 QA (hiz) "QA Output", 16 VCC (power) "Power Pin"

## SN74HC595PW
designator U?
8-Bit Shift Registers With 3-State Output Registers, PW0016A, TUBE; Generic Part Number: SN74HC595; Manufacturer: Texas Instruments; PartNumber: SN74HC595PW; Technology Family: HC; VCC(Min)(V): 2; VCC(Max)(V): 6; F @ Nom Voltage(Max)(Mhz): 28; ICC @ Nom Voltage(Max)(mA): 0.08; tpd @ Nom Voltage(Max)(ns): 34; Output Drive (IOL/IOH)(Max)(mA): 7.8/-7.8; Input Type: CMOS; 3-State Output: Yes; Rating: Military; DatasheetVersion: SCLS041H; PackageReference: PW0016A; Voltage(Nom)(V): 6; Output Type: CMOS; Operating Temperature Range(C): -40 to 85; Code_JEDEC: MO-153; ComponentLink1Description: Manufacturer URL; ComponentLink1URL: http://www.ti.com/; ComponentLink2Description: Datasheet; ComponentLink2URL: http://www.ti.com/lit/ds/symlink/sn74hc595.pdf; ComponentLink3Description: Package Specification; ComponentLink3URL: http://www.ti.com/lit/ml/mpds361/mpds361.pdf
footprint PW0016A_N (SOP, 16-Leads, Body 5.1x4.5mm, Pitch 0.65mm, IPC Medium Density)
footprint PW0016A_M (SOP, 16-Leads, Body 5.1x4.5mm, Pitch 0.65mm, IPC Low Density)
footprint PW0016A_L (SOP, 16-Leads, Body 5.1x4.5mm, Pitch 0.65mm, IPC High Density)
pins: 1 QB (hiz) "QB Output", 2 QC (hiz) "QC Output", 3 QD (hiz) "QD Output", 4 QE (hiz) "QE Output", 5 QF (hiz) "QF Output", 6 QG (hiz) "QG Output", 7 QH (hiz) "QH Output", 8 GND (power) "Ground Pin", 9 QH' (out) "QH' Output", 10 ~{SRCLR} (in) "S\R\C\L\R\ Input", 11 SRCLK (in) "SRCLK Input", 12 RCLK (in) "RCLK Input", 13 ~{OE} (in) "Output Enable Pin", 14 SER (in) "SER Input", 15 QA (hiz) "QA Output", 16 VCC (power) "Power Pin"

## SN74HC595PWR
designator U?
8-Bit Shift Registers With 3-State Output Registers, PW0016A, LARGE T&R; Generic Part Number: SN74HC595; Manufacturer: Texas Instruments; PartNumber: SN74HC595PWR; Technology Family: HC; VCC(Min)(V): 2; VCC(Max)(V): 6; F @ Nom Voltage(Max)(Mhz): 28; ICC @ Nom Voltage(Max)(mA): 0.08; tpd @ Nom Voltage(Max)(ns): 34; Output Drive (IOL/IOH)(Max)(mA): 7.8/-7.8; Input Type: CMOS; 3-State Output: Yes; Rating: Military; Bits: 8; DatasheetVersion: SCLS041H; PackageReference: PW0016A; Voltage(Nom)(V): 6; Output Type: CMOS; Operating Temperature Range(C): -40 to 85; Code_JEDEC: MO-153; ComponentLink1Description: Manufacturer URL; ComponentLink1URL: http://www.ti.com/; ComponentLink2Description: Datasheet; ComponentLink2URL: http://www.ti.com/lit/ds/symlink/sn74hc595.pdf; ComponentLink3Description: Package Specification; ComponentLink3URL: http://www.ti.com/lit/ml/mpds361/mpds361.pdf
footprint PW0016A_N (SOP, 16-Leads, Body 5.1x4.5mm, Pitch 0.65mm, IPC Medium Density)
footprint PW0016A_M (SOP, 16-Leads, Body 5.1x4.5mm, Pitch 0.65mm, IPC Low Density)
footprint PW0016A_L (SOP, 16-Leads, Body 5.1x4.5mm, Pitch 0.65mm, IPC High Density)
pins: 1 QB (hiz) "QB Output", 2 QC (hiz) "QC Output", 3 QD (hiz) "QD Output", 4 QE (hiz) "QE Output", 5 QF (hiz) "QF Output", 6 QG (hiz) "QG Output", 7 QH (hiz) "QH Output", 8 GND (power) "Ground Pin", 9 QH' (out) "QH' Output", 10 ~{SRCLR} (in) "S\R\C\L\R\ Input", 11 SRCLK (in) "SRCLK Input", 12 RCLK (in) "RCLK Input", 13 ~{OE} (in) "Output Enable Pin", 14 SER (in) "SER Input", 15 QA (hiz) "QA Output", 16 VCC (power) "Power Pin"

## SN74HCT74D
designator U?
Dual D-Type Positive-Edge-Triggered Flip-Flops With Clear and Preset, D0014A, TUBE; Generic Part Number: SN74HCT74; Manufacturer: Texas Instruments; PartNumber: SN74HCT74D; VCC(Min)(V): 4.5; VCC(Max)(V): 5.5; Output Type: CMOS; Output: 3S; ICC @ Nom Voltage(Max)(mA): 0.04; Input Type: TTL; Bits(#): 2; F @ Nom Voltage(Max)(Mhz): 25; Rating: Catalog; Technology Family: HCT; Voltage(Nom)(V): 5; Schmitt Trigger: No; Output Drive (IOL/IOH)(Max)(mA): 4/-4; Output Logic: Inverted,Non-inverted; tpd @ Nom Voltage(Max)(ns): 31; DatasheetVersion: SCLS169E; PackageReference: D0014A; Supplier 1: Digi-Key; Supplier Part Number 1: 296-1211-5-ND; Supplier 2: Farnell; Supplier Part Number 2: 9592121; Supplier 3: Newark; Supplier Part Number 3: 35K0798; Supplier 4: Mouser; Supplier Part Number 4: 595-SN74HCT74D; Operating Temperature Range(C): -40 to 85; 3-State Output: No; Code_JEDEC: MS-012; ComponentLink1Description: Manufacturer URL; ComponentLink1URL: http://www.ti.com/; ComponentLink2Description: Datasheet; ComponentLink2URL: http://www.ti.com/lit/ds/symlink/sn74hct74.pdf; ComponentLink3Description: Package Specification; ComponentLink3URL: http://www.ti.com/lit/ml/mpds177g/mpds177g.pdf
footprint D0014A_N (SOIC, 14-Leads, Body 8.75x4mm, Pitch 1.27mm, IPC Medium Density)
footprint D0014A_M (SOIC, 14-Leads, Body 8.75x4mm, Pitch 1.27mm, IPC Low Density)
footprint D0014A_L (SOIC, 14-Leads, Body 8.75x4mm, Pitch 1.27mm, IPC High Density)
part A pins: 1 1~{CLR} (in), 2 1D (in), 3 1CLK (in), 4 1~{PRE} (in), 5 1Q (out), 6 1Q (out)
part B pins: 8 2Q (out), 9 2Q (out), 10 2~{PRE} (in), 11 2CLK (in), 12 2D (in), 13 2~{CLR} (in)
part C pins: 7 GND (power), 14 VCC (power)
part A text: PRE; CLR
part B text: PRE; CLR

## SN74HCT74DBR
designator U?
Dual D-Type Positive-Edge-Triggered Flip-Flops With Clear and Preset, DB0014A, LARGE T&R; Generic Part Number: SN74HCT74; Manufacturer: Texas Instruments; PartNumber: SN74HCT74DBR; VCC(Min)(V): 4.5; VCC(Max)(V): 5.5; Output Type: CMOS; Output: 3S; ICC @ Nom Voltage(Max)(mA): 0.04; Input Type: TTL; Bits(#): 2; F @ Nom Voltage(Max)(Mhz): 25; Rating: Catalog; Technology Family: HCT; Voltage(Nom)(V): 5; Schmitt Trigger: No; Output Drive (IOL/IOH)(Max)(mA): 4/-4; Output Logic: Inverted,Non-inverted; tpd @ Nom Voltage(Max)(ns): 31; DatasheetVersion: SCLS169E; PackageReference: DB0014A; Supplier 1: Digi-Key; Supplier Part Number 1: 296-31845-2-ND; Supplier 2: Digi-Key; Supplier Part Number 2: 296-31845-1-ND; Supplier 3: Digi-Key; Supplier Part Number 3: 296-31845-6-ND; Supplier 4: Newark; Supplier Part Number 4: 02E6974; Supplier 5: Mouser; Supplier Part Number 5: 595-SN74HCT74DBR; Operating Temperature Range(C): -40 to 85; 3-State Output: No; Code_JEDEC: MO-150; ComponentLink1Description: Manufacturer URL; ComponentLink1URL: http://www.ti.com/; ComponentLink2Description: Datasheet; ComponentLink2URL: http://www.ti.com/lit/ds/symlink/sn74hct74.pdf; ComponentLink3Description: Package Specification; ComponentLink3URL: http://www.ti.com/lit/ml/msso002e/msso002e.pdf
footprint DB0014A_N (SOP, 14-Leads, Body 5.6x6.5mm, Pitch 0.65mm, IPC Medium Density)
footprint DB0014A_M (SOP, 14-Leads, Body 5.6x6.5mm, Pitch 0.65mm, IPC Low Density)
footprint DB0014A_L (SOP, 14-Leads, Body 5.6x6.5mm, Pitch 0.65mm, IPC High Density)
part A pins: 1 1~{CLR} (in), 2 1D (in), 3 1CLK (in), 4 1~{PRE} (in), 5 1Q (out), 6 1Q (out)
part B pins: 8 2Q (out), 9 2Q (out), 10 2~{PRE} (in), 11 2CLK (in), 12 2D (in), 13 2~{CLR} (in)
part C pins: 7 GND (power), 14 VCC (power)
part A text: PRE; CLR
part B text: PRE; CLR

## SN74HCT74DR
designator U?
Dual D-Type Positive-Edge-Triggered Flip-Flops With Clear and Preset, D0014A, LARGE T&R; Generic Part Number: SN74HCT74; Manufacturer: Texas Instruments; PartNumber: SN74HCT74DR; VCC(Min)(V): 4.5; VCC(Max)(V): 5.5; Output Type: CMOS; Output: 3S; ICC @ Nom Voltage(Max)(mA): 0.04; Input Type: TTL; Bits(#): 2; F @ Nom Voltage(Max)(Mhz): 25; Rating: Catalog; Technology Family: HCT; Voltage(Nom)(V): 5; Schmitt Trigger: No; Output Drive (IOL/IOH)(Max)(mA): 4/-4; Output Logic: Inverted,Non-inverted; tpd @ Nom Voltage(Max)(ns): 31; DatasheetVersion: SCLS169E; PackageReference: D0014A; Supplier 1: Digi-Key; Supplier Part Number 1: 296-1211-2-ND; Supplier 2: Digi-Key; Supplier Part Number 2: 296-1211-1-ND; Supplier 3: Digi-Key; Supplier Part Number 3: 296-1211-6-ND; Supplier 4: Farnell; Supplier Part Number 4: 2437037; Supplier 5: Newark; Supplier Part Number 5: 76C3401; Supplier 6: Mouser; Supplier Part Number 6: 595-SN74HCT74DR; Operating Temperature Range(C): -40 to 85; 3-State Output: No; Code_JEDEC: MS-012; ComponentLink1Description: Manufacturer URL; ComponentLink1URL: http://www.ti.com/; ComponentLink2Description: Datasheet; ComponentLink2URL: http://www.ti.com/lit/ds/symlink/sn74hct74.pdf; ComponentLink3Description: Package Specification; ComponentLink3URL: http://www.ti.com/lit/ml/mpds177g/mpds177g.pdf
footprint D0014A_N (SOIC, 14-Leads, Body 8.75x4mm, Pitch 1.27mm, IPC Medium Density)
footprint D0014A_M (SOIC, 14-Leads, Body 8.75x4mm, Pitch 1.27mm, IPC Low Density)
footprint D0014A_L (SOIC, 14-Leads, Body 8.75x4mm, Pitch 1.27mm, IPC High Density)
part A pins: 1 1~{CLR} (in), 2 1D (in), 3 1CLK (in), 4 1~{PRE} (in), 5 1Q (out), 6 1Q (out)
part B pins: 8 2Q (out), 9 2Q (out), 10 2~{PRE} (in), 11 2CLK (in), 12 2D (in), 13 2~{CLR} (in)
part C pins: 7 GND (power), 14 VCC (power)
part A text: PRE; CLR
part B text: PRE; CLR

## SN74HCT74DT
designator U?
Dual D-Type Positive-Edge-Triggered Flip-Flops With Clear and Preset, D0014A, SMALL T&R; Generic Part Number: SN74HCT74; Manufacturer: Texas Instruments; PartNumber: SN74HCT74DT; VCC(Min)(V): 4.5; VCC(Max)(V): 5.5; Output Type: CMOS; Output: 3S; ICC @ Nom Voltage(Max)(mA): 0.04; Input Type: TTL; Bits(#): 2; F @ Nom Voltage(Max)(Mhz): 25; Rating: Catalog; Technology Family: HCT; Voltage(Nom)(V): 5; Schmitt Trigger: No; Output Drive (IOL/IOH)(Max)(mA): 4/-4; Output Logic: Inverted,Non-inverted; tpd @ Nom Voltage(Max)(ns): 31; DatasheetVersion: SCLS169E; PackageReference: D0014A; Supplier 1: Digi-Key; Supplier Part Number 1: 296-28606-2-ND; Supplier 2: Digi-Key; Supplier Part Number 2: 296-28606-1-ND; Supplier 3: Digi-Key; Supplier Part Number 3: 296-28606-6-ND; Supplier 4: Mouser; Supplier Part Number 4: 595-SN74HCT74DT; Operating Temperature Range(C): -40 to 85; 3-State Output: No; Code_JEDEC: MS-012; ComponentLink1Description: Manufacturer URL; ComponentLink1URL: http://www.ti.com/; ComponentLink2Description: Datasheet; ComponentLink2URL: http://www.ti.com/lit/ds/symlink/sn74hct74.pdf; ComponentLink3Description: Package Specification; ComponentLink3URL: http://www.ti.com/lit/ml/mpds177g/mpds177g.pdf
footprint D0014A_N (SOIC, 14-Leads, Body 8.75x4mm, Pitch 1.27mm, IPC Medium Density)
footprint D0014A_M (SOIC, 14-Leads, Body 8.75x4mm, Pitch 1.27mm, IPC Low Density)
footprint D0014A_L (SOIC, 14-Leads, Body 8.75x4mm, Pitch 1.27mm, IPC High Density)
part A pins: 1 1~{CLR} (in), 2 1D (in), 3 1CLK (in), 4 1~{PRE} (in), 5 1Q (out), 6 1Q (out)
part B pins: 8 2Q (out), 9 2Q (out), 10 2~{PRE} (in), 11 2CLK (in), 12 2D (in), 13 2~{CLR} (in)
part C pins: 7 GND (power), 14 VCC (power)
part A text: PRE; CLR
part B text: PRE; CLR

## SN74HCT74N
designator U?
Dual D-Type Positive-Edge-Triggered Flip-Flops With Clear and Preset, N0014A, TUBE; Generic Part Number: SN74HCT74; Manufacturer: Texas Instruments; PartNumber: SN74HCT74N; VCC(Min)(V): 4.5; VCC(Max)(V): 5.5; Output Type: CMOS; Output: 3S; ICC @ Nom Voltage(Max)(mA): 0.04; Input Type: TTL; Bits(#): 2; F @ Nom Voltage(Max)(Mhz): 25; Rating: Catalog; Technology Family: HCT; Voltage(Nom)(V): 5; Schmitt Trigger: No; Output Drive (IOL/IOH)(Max)(mA): 4/-4; Output Logic: Inverted,Non-inverted; tpd @ Nom Voltage(Max)(ns): 31; DatasheetVersion: SCLS169E; PackageReference: N0014A; Supplier 1: Digi-Key; Supplier Part Number 1: 296-1625-5-ND; Supplier 2: Farnell; Supplier Part Number 2: 1470823; Supplier 3: Newark; Supplier Part Number 3: 67K1081; Supplier 4: Mouser; Supplier Part Number 4: 595-SN74HCT74N; Operating Temperature Range(C): -40 to 85; 3-State Output: No; Code_JEDEC: MS-001; ComponentLink1Description: Manufacturer URL; ComponentLink1URL: http://www.ti.com/; ComponentLink2Description: Datasheet; ComponentLink2URL: http://www.ti.com/lit/ds/symlink/sn74hct74.pdf; ComponentLink3Description: Package Specification; ComponentLink3URL: http://www.ti.com/lit/ml/mpdi002c/mpdi002c.pdf
footprint N0014A (DIP, 14-Leads, Body 19.7x6.6mm, Pitch 2.54mm)
part A pins: 1 1~{CLR} (in), 2 1D (in), 3 1CLK (in), 4 1~{PRE} (in), 5 1Q (out), 6 1Q (out)
part B pins: 8 2Q (out), 9 2Q (out), 10 2~{PRE} (in), 11 2CLK (in), 12 2D (in), 13 2~{CLR} (in)
part C pins: 7 GND (power), 14 VCC (power)
part A text: PRE; CLR
part B text: PRE; CLR

## SN74HCT74NSR
designator U?
Dual D-Type Positive-Edge-Triggered Flip-Flops With Clear and Preset, NS0014A, LARGE T&R; Generic Part Number: SN74HCT74; Manufacturer: Texas Instruments; PartNumber: SN74HCT74NSR; VCC(Min)(V): 4.5; VCC(Max)(V): 5.5; Output Type: CMOS; Output: 3S; ICC @ Nom Voltage(Max)(mA): 0.04; Input Type: TTL; Bits(#): 2; F @ Nom Voltage(Max)(Mhz): 25; Rating: Catalog; Technology Family: HCT; Voltage(Nom)(V): 5; Schmitt Trigger: No; Output Drive (IOL/IOH)(Max)(mA): 4/-4; Output Logic: Inverted,Non-inverted; tpd @ Nom Voltage(Max)(ns): 31; DatasheetVersion: SCLS169E; PackageReference: NS0014A; Supplier 1: Digi-Key; Supplier Part Number 1: 296-29290-2-ND; Supplier 2: Digi-Key; Supplier Part Number 2: 296-29290-1-ND; Supplier 3: Digi-Key; Supplier Part Number 3: 296-29290-6-ND; Supplier 4: Mouser; Supplier Part Number 4: 595-SN74HCT74NSR; Operating Temperature Range(C): -40 to 85; 3-State Output: No; ComponentLink1Description: Manufacturer URL; ComponentLink1URL: http://www.ti.com/; ComponentLink2Description: Datasheet; ComponentLink2URL: http://www.ti.com/lit/ds/symlink/sn74hct74.pdf; ComponentLink3Description: Package Specification; ComponentLink3URL: http://www.ti.com/lit/ml/msop002a/msop002a.pdf
footprint NS0014A_N (SOIC,14-Leads,Body 10.5x5.6mm,Pitch 1.27mm,IPC Medium Density)
footprint NS0014A_M (SOIC,14-Leads,Body 10.5x5.6mm,Pitch 1.27mm,IPC Low Density)
footprint NS0014A_L (SOIC,14-Leads,Body 10.5x5.6mm,Pitch 0.4mm,IPC High Density)
part A pins: 1 1~{CLR} (in), 2 1D (in), 3 1CLK (in), 4 1~{PRE} (in), 5 1Q (out), 6 1Q (out)
part B pins: 8 2Q (out), 9 2Q (out), 10 2~{PRE} (in), 11 2CLK (in), 12 2D (in), 13 2~{CLR} (in)
part C pins: 7 GND (power), 14 VCC (power)
part A text: PRE; CLR
part B text: PRE; CLR

## SN74HCT74PW
designator U?
Dual D-Type Positive-Edge-Triggered Flip-Flops With Clear and Preset, PW0014A, TUBE; Generic Part Number: SN74HCT74; Manufacturer: Texas Instruments; PartNumber: SN74HCT74PW; VCC(Min)(V): 4.5; VCC(Max)(V): 5.5; Output Type: CMOS; Output: 3S; ICC @ Nom Voltage(Max)(mA): 0.04; Input Type: TTL; Bits(#): 2; F @ Nom Voltage(Max)(Mhz): 25; Rating: Catalog; Technology Family: HCT; Voltage(Nom)(V): 5; Schmitt Trigger: No; Output Drive (IOL/IOH)(Max)(mA): 4/-4; Output Logic: Inverted,Non-inverted; tpd @ Nom Voltage(Max)(ns): 31; DatasheetVersion: SCLS169E; PackageReference: PW0014A; Supplier 1: Digi-Key; Supplier Part Number 1: 296-33949-5-ND; Supplier 2: Farnell; Supplier Part Number 2: 1749850; Supplier 3: Newark; Supplier Part Number 3: 34R8682; Supplier 4: Mouser; Supplier Part Number 4: 595-SN74HCT74PW; Operating Temperature Range(C): -40 to 85; 3-State Output: No; Code_JEDEC: MO-153; ComponentLink1Description: Manufacturer URL; ComponentLink1URL: http://www.ti.com/; ComponentLink2Description: Datasheet; ComponentLink2URL: http://www.ti.com/lit/ds/symlink/sn74hct74.pdf; ComponentLink3Description: Package Specification; ComponentLink3URL: http://www.ti.com/lit/ml/mpds360/mpds360.pdf
footprint PW0014A_N (SOP, 14-Leads, Body 5.1x4.5mm, Pitch 0.65mm, IPC Medium Density)
footprint PW0014A_M (SOP, 14-Leads, Body 5.1x4.5mm, Pitch 0.65mm, IPC Low Density)
footprint PW0014A_L (SOP, 14-Leads, Body 5.1x4.5mm, Pitch 0.65mm, IPC High Density)
part A pins: 1 1~{CLR} (in), 2 1D (in), 3 1CLK (in), 4 1~{PRE} (in), 5 1Q (out), 6 1Q (out)
part B pins: 8 2Q (out), 9 2Q (out), 10 2~{PRE} (in), 11 2CLK (in), 12 2D (in), 13 2~{CLR} (in)
part C pins: 7 GND (power), 14 VCC (power)
part A text: PRE; CLR
part B text: PRE; CLR

## SN74HCT74PWR
designator U?
Dual D-Type Positive-Edge-Triggered Flip-Flops With Clear and Preset, PW0014A, LARGE T&R; Generic Part Number: SN74HCT74; Manufacturer: Texas Instruments; PartNumber: SN74HCT74PWR; VCC(Min)(V): 4.5; VCC(Max)(V): 5.5; Output Type: CMOS; Output: 3S; ICC @ Nom Voltage(Max)(mA): 0.04; Input Type: TTL; Bits(#): 2; F @ Nom Voltage(Max)(Mhz): 25; Rating: Catalog; Technology Family: HCT; Voltage(Nom)(V): 5; Schmitt Trigger: No; Output Drive (IOL/IOH)(Max)(mA): 4/-4; Output Logic: Inverted,Non-inverted; tpd @ Nom Voltage(Max)(ns): 31; DatasheetVersion: SCLS169E; PackageReference: PW0014A; Supplier 1: Digi-Key; Supplier Part Number 1: 296-8429-2-ND; Supplier 2: Digi-Key; Supplier Part Number 2: 296-8429-1-ND; Supplier 3: Digi-Key; Supplier Part Number 3: 296-8429-6-ND; Supplier 4: Newark; Supplier Part Number 4: 76C3403; Supplier 5: Mouser; Supplier Part Number 5: 595-SN74HCT74PWR; Operating Temperature Range(C): -40 to 85; 3-State Output: No; Code_JEDEC: MO-153; ComponentLink1Description: Manufacturer URL; ComponentLink1URL: http://www.ti.com/; ComponentLink2Description: Datasheet; ComponentLink2URL: http://www.ti.com/lit/ds/symlink/sn74hct74.pdf; ComponentLink3Description: Package Specification; ComponentLink3URL: http://www.ti.com/lit/ml/mpds360/mpds360.pdf
footprint PW0014A_N (SOP, 14-Leads, Body 5.1x4.5mm, Pitch 0.65mm, IPC Medium Density)
footprint PW0014A_M (SOP, 14-Leads, Body 5.1x4.5mm, Pitch 0.65mm, IPC Low Density)
footprint PW0014A_L (SOP, 14-Leads, Body 5.1x4.5mm, Pitch 0.65mm, IPC High Density)
part A pins: 1 1~{CLR} (in), 2 1D (in), 3 1CLK (in), 4 1~{PRE} (in), 5 1Q (out), 6 1Q (out)
part B pins: 8 2Q (out), 9 2Q (out), 10 2~{PRE} (in), 11 2CLK (in), 12 2D (in), 13 2~{CLR} (in)
part C pins: 7 GND (power), 14 VCC (power)
part A text: PRE; CLR
part B text: PRE; CLR